# EAGLE library part LIS302SG (library Zoli2_2015-01-28)
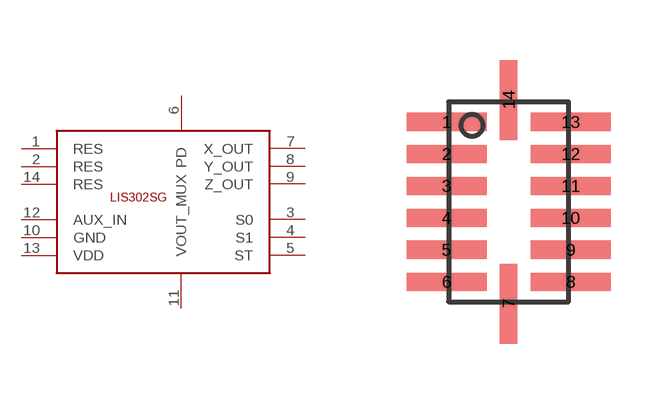
[diagram p69: symbol with the pads of LGA14; footprint LGA14]

Designator prefix -

## LIS302SG  [LGA14]
1  RES  pwr
2  RES  pwr
3  S0  in
4  S1  in
5  ST  in
6  PD  pwr
7  X_OUT  out
8  Y_OUT  out
9  Z_OUT  out
10  GND  pwr
11  VOUT_MUX  out
12  AUX_IN  in
13  VDD  pwr
14  RES  pwr

## Footprint LGA14 (pad centres in mm)
smd 2 x 0.45: 1 -1.55,2; 2 -1.55,1.2; 3 -1.55,0.4; 4 -1.55,-0.4; 5 -1.55,-1.2; 6 -1.55,-2; 8 1.55,-2; 9 1.55,-1.2; 10 1.55,-0.4; 11 1.55,0.4; 12 1.55,1.2; 13 1.55,2
smd 0.45 x 2: 7 0,-2.55; 14 0,2.55